# Altium schematic symbol library CON_1X9.Schlib: 1 symbol
Pins are listed as number, name and electrical type; pins without a type are passive.

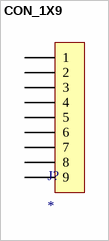
[diagram p0: symbol CON_1X9]

## CON_1X9
designator J?
pins: 1, 2, 3, 4, 5, 6, 7, 8, 9